# Altium footprint library QFN_DFN.PcbLib: 23 footprints (part 1 of 2)
Each footprint in its own frame and in the unit in brackets; x right, y up, seen from the top. Pads: shape width x height; smd on the part's side, far side on the other; paste and mask are expansions set on the pad; w line width, h text height; cw(c..) or ccw(c..) is an arc to the next point about the centre after c.
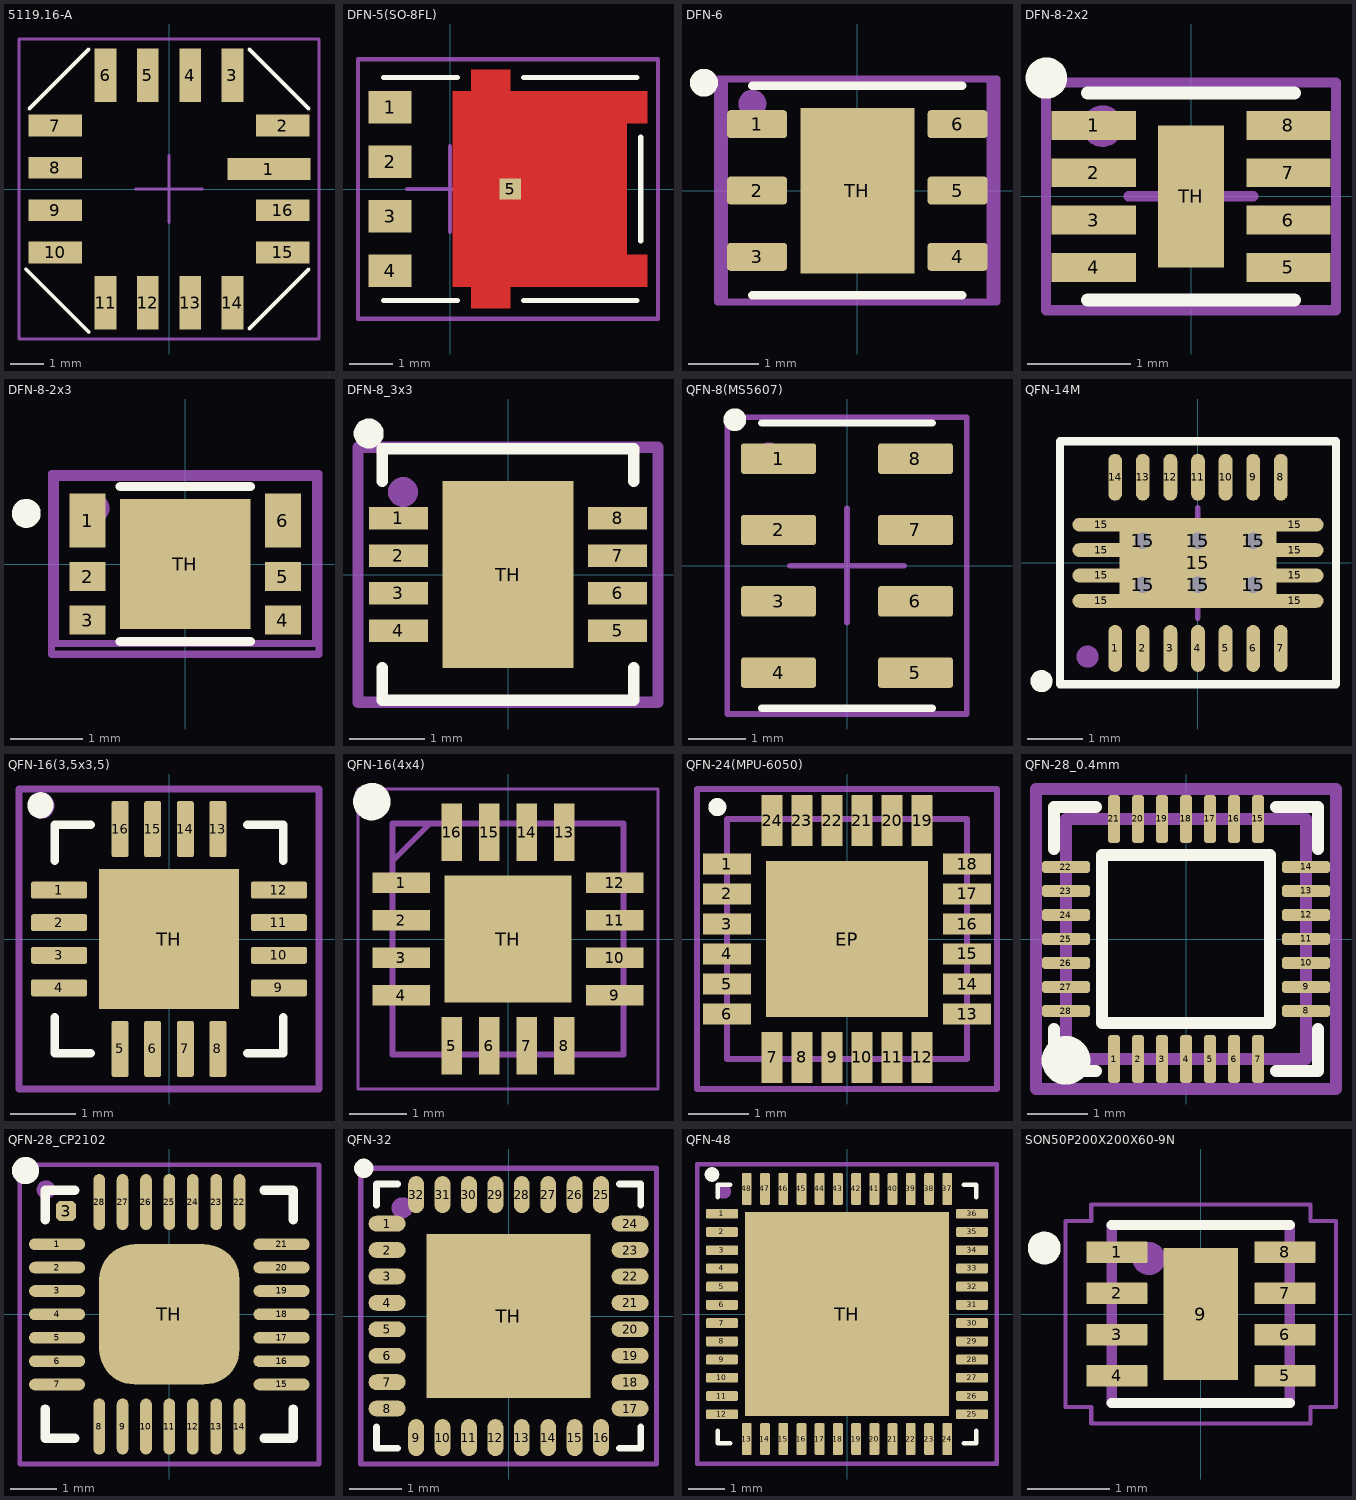
[diagram p0: the footprints below, top view; thin cyan lines are the x and y axes]

## 5119.16-A [mm]
pads (16):
  rect 2.5x0.65 smd: 1(3,0.6)
  rect 1.6x0.65 smd: 2(3.41,1.905) 7(-3.41,1.905) 8(-3.41,0.635) 9(-3.41,-0.635) 10(-3.41,-1.905) 15(3.41,-1.905) 16(3.41,-0.635)
  rect 0.65x1.6 smd: 3(1.905,3.41) 4(0.635,3.41) 5(-0.635,3.41) 6(-1.905,3.41) 11(-1.905,-3.41) 12(-0.635,-3.41) 13(0.635,-3.41) 14(1.905,-3.41)
Top Overlay:
  lines w0.1: -4.3,-2.4 -2.4,-4.3 ; -4.2,2.4 -2.4,4.2 ; 2.4,-4.2 4.2,-2.4 ; 2.4,4.2 4.2,2.4
Top Assembly:
  circle w0.2: c3.725,0.611 r0.1
  lines w0.1: -1,0 1,0 ; 0,-1 0,1 ; -4.5,-4.5 -4.5,4.5 4.5,4.5 4.5,-4.5 -4.5,-4.5
Top Courtyard (Mech15):
  lines w0.1: -4.5,-4.5 -4.5,4.5 ; -4.5,-4.5 4.5,-4.5 ; -4.5,-4.5 4.5,-4.5 ; -4.5,-4.5 -4.5,4.5 ; -4.5,4.5 4.5,4.5 ; -4.5,4.5 4.5,4.5 ; 4.5,-4.5 4.5,4.5 ; 4.5,-4.5 4.5,4.5
3D body "STEP-модель для корпуса 5119.16-А.step": height -0.42, standoff -2.87, extent -3.81,-3.8 3.81,3.821

## DFN-5(SO-8FL) [mm] "SON, 8-Leads, Body 3,30x3,30mm, Pitch 0,70mm, IPC Low Density"
height 0.85
pads (5):
  rect 1x0.75 smd: 1(-1.397,1.905) 2(-1.397,0.635) 3(-1.397,-0.635) 4(-1.397,-1.905)
  rect 0.5x0.5 smd paste-1 mask+0: 5(1.398,0)
Top Layer:
  region: 1.398,2.28 4.598,2.28 4.598,1.53 4.123,1.53 4.123,-1.53 4.598,-1.53 4.598,-2.28 1.398,-2.28 1.398,-2.775 0.493,-2.775 0.493,-2.28 0.068,-2.28 0.068,2.28 0.493,2.28 0.493,2.775 1.398,2.775
Top Overlay:
  lines w0.127: -1.552,-2.6 0.173,-2.6 ; -1.552,2.6 0.173,2.6 ; 1.718,-2.6 4.348,-2.6 ; 1.718,2.6 4.348,2.6 ; 4.443,-1.21 4.443,1.21
Top Paste:
  region: 3.75,-1.86 2.47,-1.86 2.47,-0.42 3.75,-0.42
  region: 1.72,-1.86 0.44,-1.86 0.44,-0.42 1.72,-0.42
  region: 3.75,0.42 2.47,0.42 2.47,1.86 3.75,1.86
  region: 1.72,0.42 0.44,0.42 0.44,1.86 1.72,1.86
  region: 4.738,-2.14 3.988,-2.14 3.988,-1.67 4.738,-1.67
  region: 1.19,2.077 0.7,2.077 0.7,2.983 1.19,2.983
  region: 1.19,-2.983 0.7,-2.983 0.7,-2.077 1.19,-2.077
  region: 4.738,1.67 3.988,1.67 3.988,2.14 4.738,2.14
Top Solder:
  region: 1.498,2.38 4.698,2.38 4.698,1.43 4.223,1.43 4.223,-1.43 4.698,-1.43 4.698,-2.38 1.498,-2.38 1.498,-2.875 0.393,-2.875 0.393,-2.38 -0.032,-2.38 -0.032,2.38 0.393,2.38 0.393,2.875 1.498,2.875
Top Assembly:
  lines w0.1: -1,0 1,0 ; 0,-1 0,1 ; -2.147,-3.025 4.848,-3.025 4.848,3.025 -2.147,3.025 -2.147,-3.025
Top Courtyard (Mech15):
  lines w0.1: -2.147,-3.025 4.848,-3.025 4.848,3.025 -2.147,3.025 -2.147,-3.025
3D body "User Library-DFN5x6_SO8FL.STEP": height 1.13, standoff 0, extent -1.65,-2.575 4.5,2.575

## DFN-6 [mm]
pads (7):
  rrect25% 0.86x0.4 smd: 1(-1.435,0.95) 2(-1.435,0) 3(-1.435,-0.95) 4(1.435,-0.95) 5(1.435,0) 6(1.435,0.95)
  rect 1.63x2.37 smd paste-2: TH(0,0)
Top Overlay:
  circle w0.2: c-2.197,1.543 r0.1
  lines w0.127: -1.5,-1.5 1.5,-1.5 ; -1.5,1.5 1.5,1.5
Top Paste:
  region: 0.51,-0.75 -0.51,-0.75 -0.51,0.75 0.51,0.75
Top Assembly:
  circle w0.2: c-1.504,1.242 r0.1
  lines w0.1: -0.6,0 0.6,0 ; 0,-0.6 0,0.6 ; -1.9,-1.6 1.9,-1.6 1.9,1.6 -1.9,1.6 -1.9,-1.6
Top Courtyard (Mech15):
  lines w0.1: -2,-1.6 -2,1.6 2,1.6 2,-1.6 -2,-1.6
3D body "step_temp.STEP": height 1.05, standoff 0.05, extent -1.5,-1.5 1.5,1.5

## DFN-8-2x2 [mil]
pads (9):
  rect 32x11 smd: 1(-37,27) 2(-37,9) 3(-37,-9) 4(-37,-27) 5(37,-27) 6(37,-9) 7(37,9) 8(37,27)
  rect 25x54 smd: TH(0,0)
Top Overlay:
  circle w7.87: c-55,45 r3.94
  lines w5: -39.37,-39.37 39.37,-39.37 ; -39.37,39.37 39.37,39.37
Top Assembly:
  circle w7.87: c-33.66,26.72 r3.94
  lines w3.94: -23.62,0 23.62,0 ; 0,-23.62 0,23.62 ; -55.12,-43.31 55.12,-43.31 55.12,43.31 -55.12,43.31 -55.12,-43.31
Top Courtyard (Mech15):
  lines w3.94: -55.12,-43.31 55.12,-43.31 55.12,43.31 -55.12,43.31 -55.12,-43.31
3D body "step_temp.STEP": height 31.5, standoff 0, extent -39.37,-39.37 39.37,39.37

## DFN-8-2x3 [mm]
pads (7):
  rect 0.5x0.75 smd: 1(-1.35,0.6) 6(1.35,0.6)
  rect 0.5x0.4 smd: 2(-1.35,-0.175) 3(-1.35,-0.775) 4(1.35,-0.775) 5(1.35,-0.175)
  rect 1.8x1.8 smd paste-2: TH(0,0)
Top Overlay:
  circle w0.2: c-2.2,0.7 r0.1
  lines w0.127: -0.9,-1.073 0.9,-1.073 ; -0.9,1.073 0.9,1.073
Top Paste:
  region: 0.57,-0.571 -0.571,-0.571 -0.571,0.57 0.57,0.57
Top Assembly:
  circle w0.2: c-1.249,0.771 r0.1
  lines w0.1: -0.6,0 0.6,0 ; 0,-0.6 0,0.6 ; -1.8,-1.1 1.8,-1.1 1.8,1.2 -1.8,1.2 -1.8,-1.1
Top Courtyard (Mech15):
  lines w0.1: -1.85,-1.25 1.85,-1.25 1.85,1.25 -1.85,1.25 -1.85,-1.25
3D body "DFN-8 2x3.step": height 1, standoff 0, extent -1.525,-1 1.525,1

## DFN-8_3x3 [mil]
pads (9):
  rect 31x12 smd: 1(-57.5,29.53) 2(-57.5,9.84) 3(-57.5,-9.84) 4(-57.5,-29.53) 5(57.5,-29.53) 6(57.5,-9.84) 7(57.5,9.84) 8(57.5,29.53)
  rect 69x98 smd paste-78.74: TH(0,0)
Top Overlay:
  circle w7.87: c-73.13,74.06 r3.94
  lines w6: -66,-49 -66,-66 66,-66 66,-49 ; -66,49 -66,66 66,66 66,49
Top Paste:
  region: 34.5,-49 -34.5,-49 -34.5,49 34.5,49
Top Assembly:
  circle w7.87: c-55.12,43.31 r3.94
  lines w6: -78.74,-66.93 -78.74,66.93 -17.93,66.93 17.93,66.93 78.74,66.93 78.74,-66.93 -78.74,-66.93
3D body "User Library-DFN-8.STEP": height 31.5, standoff 0, extent -59.45,-59.06 59.45,59.06

## QFN-8(MS5607) [mm]
pads (8):
  rrect15% 1.31x0.53 smd: 1(-1.2,1.875)
  rrect16% 1.31x0.53 smd: 2(-1.2,0.625) 3(-1.2,-0.625) 4(-1.2,-1.875) 5(1.2,-1.875) 6(1.2,-0.625) 7(1.2,0.625) 8(1.2,1.875)
Top Overlay:
  circle w0.2: c-1.967,2.558 r0.1
  lines w0.127: -1.5,-2.5 1.5,-2.5 ; -1.5,2.5 1.5,2.5
Top Assembly:
  circle w0.2: c-1.372,1.963 r0.1
  lines w0.1: -1,0 1,0 ; 0,-1 0,1 ; -2.1,-2.6 -2.1,2.6 2.1,2.6 2.1,-2.6 -2.1,-2.6
Top Courtyard (Mech15):
  lines w0.1: -2.1,-2.6 -2.1,2.6 2.1,2.6 2.1,-2.6 -2.1,-2.6
3D body "ms561101ba03-00.stp": height 1.02, standoff 0.07, extent -1.5,-2.5 1.5,2.5

## QFN-14M [mm] "QFN, 14-Leads, Body 4,00x3,00mm, Pitch 0,50mm, Thermal Pad 2,85x1,58mm, IPC Low Density"
height 1
pads (29):
  oval 0.25x0.85 smd: 1(-1.5,-1.55) 2(-1,-1.55) 3(-0.5,-1.55) 4(0,-1.55) 5(0.5,-1.55) 6(1,-1.55) 7(1.5,-1.55) 8(1.5,1.55) 9(1,1.55) 10(0.5,1.55) 11(0,1.55) 12(-0.5,1.55) 13(-1,1.55) 14(-1.5,1.55)
  oval 1.05x0.25 smd: 15(-1.75,-0.69) 15(-1.75,-0.23) 15(-1.75,0.23) 15(-1.75,0.69) 15(1.75,-0.69) 15(1.75,-0.23) 15(1.75,0.23) 15(1.75,0.69)
  round 0.6 hole 0.3: 15(-1,-0.4) 15(-1,0.4) 15(0,-0.4) 15(0,0.4) 15(1,-0.4) 15(1,0.4)
  rect 2.85x1.63 smd paste-1: 15(0,0)
Top Overlay:
  circle w0.2: c-2.834,-2.144 r0.1
  lines w0.152: -2.5,-2.2 2.5,-2.2 2.5,2.2 -2.5,2.2 -2.5,-2.2
Top Paste:
  rectangle: 0.1,-0.8 1.4,-0.1
  rectangle: -1.4,-0.8 -0.1,-0.1
  rectangle: -1.4,0.1 -0.1,0.8
  rectangle: 0.1,0.1 1.4,0.8
Top Assembly:
  circle w0.2: c-2,-1.7 r0.1
  lines w0.1: -1,0 1,0 ; 0,-1 0,1 ; -2.5,-2.2 -2.5,2.2 2.5,2.2 2.5,-2.2 -2.5,-2.2
Top Courtyard (Mech15):
  lines w0.1: -2.5,-2.2 2.5,-2.2 2.5,2.2 -2.5,2.2 -2.5,-2.2
3D body "QFN50P400X300X100_HS-15M.step": height 1, standoff 0, extent -2.075,-1.655 2.075,1.655

## QFN-16(3,5x3,5) [mm]
pads (17):
  rrect25% 0.86x0.26 smd: 1(-1.685,0.75) 2(-1.685,0.25) 3(-1.685,-0.25) 4(-1.685,-0.75) 9(1.685,-0.75) 10(1.685,-0.25) 11(1.685,0.25) 12(1.685,0.75)
  rrect25% 0.26x0.86 smd: 5(-0.75,-1.685) 6(-0.25,-1.685) 7(0.25,-1.685) 8(0.75,-1.685) 13(0.75,1.685) 14(0.25,1.685) 15(-0.25,1.685) 16(-0.75,1.685)
  rect 2.14x2.14 smd paste-2: TH(0,0)
Top Overlay:
  circle w0.2: c-1.972,2.051 r0.1
  lines w0.127: -1.75,-1.2 -1.75,-1.75 -1.2,-1.75 ; -1.75,1.2 -1.75,1.75 -1.2,1.75 ; 1.2,-1.75 1.75,-1.75 1.75,-1.2 ; 1.2,1.75 1.75,1.75 1.75,1.2
Top Paste:
  region: 0.68,-0.68 -0.68,-0.68 -0.68,0.68 0.68,0.68
Top Assembly:
  circle w0.2: c-1.957,2.044 r0.1
  lines w0.1: -2.3,-2.3 -2.3,2.3 2.3,2.3 2.3,-2.3 -2.3,-2.3
Top Courtyard (Mech15):
  lines w0.1: -2.3,-2.3 -2.3,2.3 2.3,2.3 2.3,-2.3 -2.3,-2.3
3D body "User Library-BQ24600RVAT.x_b": height 0.9, standoff 0, extent -1.75,-1.75 1.75,1.75

## QFN-16(4x4) [mm]
pads (17):
  rect 1x0.35 smd: 1(-1.85,0.975) 2(-1.85,0.325) 3(-1.85,-0.325) 4(-1.85,-0.975) 9(1.85,-0.975) 10(1.85,-0.325) 11(1.85,0.325) 12(1.85,0.975)
  rect 0.35x1 smd: 5(-0.975,-1.85) 6(-0.325,-1.85) 7(0.325,-1.85) 8(0.975,-1.85) 13(0.975,1.85) 14(0.325,1.85) 15(-0.325,1.85) 16(-0.975,1.85)
  rect 2.2x2.2 smd: TH(0,0)
Top Overlay:
  circle w0.325: c-2.361,2.382 r0.162
Top Assembly:
  lines w0.1: -2,1.35 -1.35,2 ; -2,-2 -2,2 2,2 2,-2 -2,-2
Top Courtyard (Mech15):
  lines w0.05: -2.6,-2.6 -2.6,2.6 2.6,2.6 2.6,-2.6 -2.6,-2.6
3D body "TP5000-QFN16.stp": height 0.9, standoff 0, extent -2.05,-2.05 2.05,2.05

## QFN-24(MPU-6050) [mm]
pads (25):
  rect 0.8x0.35 smd: 1(-2,1.25) 2(-2,0.75) 3(-2,0.25) 4(-2,-0.25) 5(-2,-0.75) 6(-2,-1.25) 13(2,-1.25) 14(2,-0.75) 15(2,-0.25) 16(2,0.25) 17(2,0.75) 18(2,1.25)
  rect 0.35x0.85 smd: 7(-1.25,-1.975) 8(-0.75,-1.975) 9(-0.25,-1.975) 10(0.25,-1.975) 11(0.75,-1.975) 12(1.25,-1.975) 19(1.25,1.975) 20(0.75,1.975) 21(0.25,1.975) 22(-0.25,1.975) 23(-0.75,1.975) 24(-1.25,1.975)
  rect 2.7x2.6 smd: EP(0,0)
Top Overlay:
  lines w0.2: -2.211,2.198 ccw(c-2.161,2.198) -2.111,2.198 ; -2.211,2.198 cw(c-2.161,2.198) -2.111,2.198 ; -2.211,2.198 ccw(c-2.161,2.198) -2.111,2.198
Top Assembly:
  lines w0.1: -2,-2 2,-2 2,2 -2,2 -2,-2
Top Courtyard (Mech15):
  lines w0.1: -2.5,-2.5 2.5,-2.5 2.5,2.5 -2.5,2.5 -2.5,-2.5
3D body "MPU-6050.stp": height 0.88, standoff -0.02, extent -2,-2 2,2

## QFN-28_0.4mm [mm] "Body 5,00x5,00mm, Pitch 0,50mm"
height 1
pads (28):
  rrect50% 0.2x0.8 smd: 1(-1.2,-2) 2(-0.8,-2) 3(-0.4,-2) 4(0,-2) 5(0.4,-2) 6(0.8,-2) 7(1.2,-2) 15(1.2,2) 16(0.8,2) 17(0.4,2) 18(0,2) 19(-0.4,2) 20(-0.8,2) 21(-1.2,2)
  rrect50% 0.8x0.2 smd: 8(2,-1.2) 9(2,-0.8) 10(2,-0.4) 11(2,0) 12(2,0.4) 13(2,0.8) 14(2,1.2) 22(-2,1.2) 23(-2,0.8) 24(-2,0.4) 25(-2,0) 26(-2,-0.4) 27(-2,-0.8) 28(-2,-1.2)
Top Overlay:
  circle w0.6: c-2,-2.022 r0.105
  lines w0.2: -2.2,-1.5 -2.2,-2.2 -1.5,-2.2 ; -2.2,1.5 -2.2,2.2 -1.5,2.2 ; 1.5,-2.2 2.2,-2.2 2.2,-1.5 ; 1.5,2.2 2.2,2.2 2.2,1.5 ; -1.4,-1.4 -1.4,1.4 0,1.4 1.4,1.4 1.4,-1.4 -1.4,-1.4
Top Courtyard:
  lines w0.2: -2.5,-2.5 -2.5,2.5 2.5,2.5 2.5,-2.5 -2.5,-2.5
Top Assembly:
  lines w0.2: -2,-2 2,-2 2,2 -2,2 -2,-2
3D body "User Library-QFN28-0_4.STEP": height 0.75, standoff 0, extent -2,-2 2,2

## QFN-28_CP2102 [mm] "Body 5,00x5,00mm, Pitch 0,50mm"
height 1
pads (30):
  oval 1.2x0.25 smd: 1(-2.4,1.5) 2(-2.4,1) 3(-2.4,0.5) 4(-2.4,0) 5(-2.4,-0.5) 6(-2.4,-1) 7(-2.4,-1.5) 15(2.4,-1.5) 16(2.4,-1) 17(2.4,-0.5) 18(2.4,0) 19(2.4,0.5) 20(2.4,1) 21(2.4,1.5)
  rrect50% 0.435x0.435 smd: 3(-2.21,2.21)
  oval 0.25x1.2 smd: 8(-1.5,-2.4) 9(-1,-2.4) 10(-0.5,-2.4) 11(0,-2.4) 12(0.5,-2.4) 13(1,-2.4) 14(1.5,-2.4) 22(1.5,2.4) 23(1,2.4) 24(0.5,2.4) 25(0,2.4) 26(-0.5,2.4) 27(-1,2.4) 28(-1.5,2.4)
  rrect50% 3x3 smd: TH(0,0)
Top Overlay:
  circle w0.3: c-3.075,3.075 r0.14
  lines w0.2: -2.65,-2.025 -2.65,-2.65 -2.025,-2.65 ; -2.65,2.025 -2.65,2.65 -2.025,2.65 ; 2.025,-2.65 2.65,-2.65 2.65,-2.025 ; 2.025,2.65 2.65,2.65 2.65,2.025
Top Assembly:
  circle w0.2: c-2.638,2.666 r0.1
  lines w0.1: -1,0 1,0 ; 0,-1 0,1 ; -3.2,-3.2 -3.2,3.2 3.2,3.2 3.2,-3.2 -3.2,-3.2
Top Courtyard (Mech15):
  lines w0.1: -3.2,-3.2 3.2,-3.2 3.2,3.2 -3.2,3.2 -3.2,-3.2
3D body: height 1, standoff 0.03, extent -2.5,-2.5 2.5,2.5

## QFN-32 [mm]
pads (33):
  oval 0.7x0.3 smd mask+0: 1(-2.3,1.75) 2(-2.3,1.25) 3(-2.3,0.75) 4(-2.3,0.25) 5(-2.3,-0.25) 6(-2.3,-0.75) 7(-2.3,-1.25) 8(-2.3,-1.75) 17(2.3,-1.75) 18(2.3,-1.25) 19(2.3,-0.75) 20(2.3,-0.25) 21(2.3,0.25) 22(2.3,0.75) 23(2.3,1.25) 24(2.3,1.75)
  oval 0.3x0.7 smd mask+0: 9(-1.75,-2.3) 10(-1.25,-2.3) 11(-0.75,-2.3) 12(-0.25,-2.3) 13(0.25,-2.3) 14(0.75,-2.3) 15(1.25,-2.3) 16(1.75,-2.3) 25(1.75,2.3) 26(1.25,2.3) 27(0.75,2.3) 28(0.25,2.3) 29(-0.25,2.3) 30(-0.75,2.3) 31(-1.25,2.3) 32(-1.75,2.3)
  rect 3.1x3.1 smd paste-3: TH(0,0)
Top Overlay:
  circle w0.2: c-2.741,2.797 r0.081
  lines w0.127: -2.5,-2.1 -2.5,-2.5 -2.1,-2.5 ; -2.5,2.1 -2.5,2.5 -2.1,2.5 ; 2.1,-2.5 2.5,-2.5 2.5,-2.1 ; 2.1,2.5 2.5,2.5 2.5,2.1
Top Paste:
  region: 0.98,-0.982 -0.982,-0.982 -0.982,0.98 0.98,0.98
Top Solder:
  lines w0.4: -2.499,-1.749 -2.099,-1.749 ; -2.499,-1.249 -2.099,-1.249 ; -2.499,-0.749 -2.099,-0.749 ; -2.499,-0.249 -2.099,-0.249 ; -2.499,0.251 -2.099,0.251 ; -2.499,0.751 -2.099,0.751 ; -2.499,1.251 -2.099,1.251 ; -2.499,1.751 -2.099,1.751 ; -1.749,-2.499 -1.749,-2.099 ; -1.749,2.101 -1.749,2.501 ; -1.249,-2.499 -1.249,-2.099 ; -1.249,2.101 -1.249,2.501 ; -0.749,-2.499 -0.749,-2.099 ; -0.749,2.101 -0.749,2.501 ; -0.249,-2.499 -0.249,-2.099 ; -0.249,2.101 -0.249,2.501 ; 0.251,-2.499 0.251,-2.099 ; 0.251,2.101 0.251,2.501 ; 0.751,-2.499 0.751,-2.099 ; 0.751,2.101 0.751,2.501 ; 1.251,-2.499 1.251,-2.099 ; 1.251,2.101 1.251,2.501 ; 1.751,-2.499 1.751,-2.099 ; 1.751,2.101 1.751,2.501 ; 2.101,-1.749 2.501,-1.749 ; 2.101,-1.249 2.501,-1.249 ; 2.101,-0.749 2.501,-0.749 ; 2.101,-0.249 2.501,-0.249 ; 2.101,0.251 2.501,0.251 ; 2.101,0.751 2.501,0.751 ; 2.101,1.251 2.501,1.251 ; 2.101,1.751 2.501,1.751
Top Assembly:
  circle w0.2: c-2.013,2.048 r0.1
  lines w0.1: -1,0 1,0 ; 0,-1 0,1 ; -2.8,-2.8 2.8,-2.8 2.8,2.8 -2.8,2.8 -2.8,-2.8
Top Courtyard (Mech15):
  lines w0.1: -2.8,-2.8 2.8,-2.8 2.8,2.8 -2.8,2.8 -2.8,-2.8
3D body "step_temp.STEP": height 0.97, standoff -0.03, extent -2.5,-2.5 2.5,2.5

## QFN-48 [mm]
pads (49):
  rrect25% 0.87x0.27 smd: 1(-3.43,2.75) 2(-3.43,2.25) 3(-3.43,1.75) 4(-3.43,1.25) 5(-3.43,0.75) 6(-3.43,0.25) 7(-3.43,-0.25) 8(-3.43,-0.75) 9(-3.43,-1.25) 10(-3.43,-1.75) 11(-3.43,-2.25) 12(-3.43,-2.75) 25(3.43,-2.75) 26(3.43,-2.25) 27(3.43,-1.75) 28(3.43,-1.25) 29(3.43,-0.75) 30(3.43,-0.25) 31(3.43,0.25) 32(3.43,0.75) 33(3.43,1.25) 34(3.43,1.75) 35(3.43,2.25) 36(3.43,2.75)
  rrect25% 0.27x0.87 smd: 13(-2.75,-3.43) 14(-2.25,-3.43) 15(-1.75,-3.43) 16(-1.25,-3.43) 17(-0.75,-3.43) 18(-0.25,-3.43) 19(0.25,-3.43) 20(0.75,-3.43) 21(1.25,-3.43) 22(1.75,-3.43) 23(2.25,-3.43) 24(2.75,-3.43) 37(2.75,3.43) 38(2.25,3.43) 39(1.75,3.43) 40(1.25,3.43) 41(0.75,3.43) 42(0.25,3.43) 43(-0.25,3.43) 44(-0.75,3.43) 45(-1.25,3.43) 46(-1.75,3.43) 47(-2.25,3.43) 48(-2.75,3.43)
  rect 5.6x5.6 smd paste-4: TH(0,0)
Top Overlay:
  circle w0.2: c-3.704,3.828 r0.1
  lines w0.127: -3.55,-3.205 -3.55,-3.55 -3.205,-3.55 ; -3.55,3.205 -3.55,3.55 -3.205,3.55 ; 3.205,-3.55 3.55,-3.55 3.55,-3.205 ; 3.205,3.55 3.55,3.55 3.55,3.205
Top Paste:
  region: -0.51,0.51 -2.29,0.51 -2.29,2.29 -0.51,2.29
  region: 2.29,0.51 0.51,0.51 0.51,2.29 2.29,2.29
  region: -0.51,-2.29 -2.29,-2.29 -2.29,-0.51 -0.51,-0.51
  region: 2.29,-2.29 0.51,-2.29 0.51,-0.51 2.29,-0.51
Top Assembly:
  circle w0.2: c-3.38,3.365 r0.1
  lines w0.1: -1,0 1,0 ; 0,-1 0,1 ; -4.1,-4.1 4.1,-4.1 4.1,4.1 -4.1,4.1 -4.1,-4.1
Top Courtyard (Mech15):
  lines w0.1: -4.115,-4.115 4.115,-4.115 4.115,4.115 -4.115,4.115 -4.115,-4.115
3D body "ALSRobot-QFN48 7x7.step": height 0.78, standoff -0.02, extent -3.51,-3.51 3.51,3.51

## SON50P200X200X60-9N [mm]
pads (9):
  rrect7% 0.74x0.26 smd: 1(-1.02,0.75) 2(-1.02,0.25) 3(-1.02,-0.25) 4(-1.02,-0.75) 5(1.02,-0.75) 6(1.02,-0.25) 7(1.02,0.25) 8(1.02,0.75)
  rect 0.9x1.6 smd: 9(0,0)
Top Overlay:
  circle w0.2: c-1.9,0.8 r0.1
  lines w0.127: -1.08,-1.08 1.08,-1.08 ; -1.08,1.08 1.08,1.08
Top Assembly:
  circle w0.2: c-0.63,0.673 r0.1
  lines w0.127: -1.08,-1.08 1.08,-1.08 1.08,1.08 -1.08,1.08 -1.08,-1.08
Top Courtyard (Mech15):
  lines w0.05: -1.64,-1.13 -1.64,1.13 -1.33,1.13 -1.33,1.33 1.33,1.33 1.33,1.13 1.64,1.13 1.64,-1.13 1.33,-1.13 1.33,-1.33 -1.33,-1.33 -1.33,-1.13 -1.64,-1.13